# EAGLE library part USB-MICROE (library Deegou_Connector)
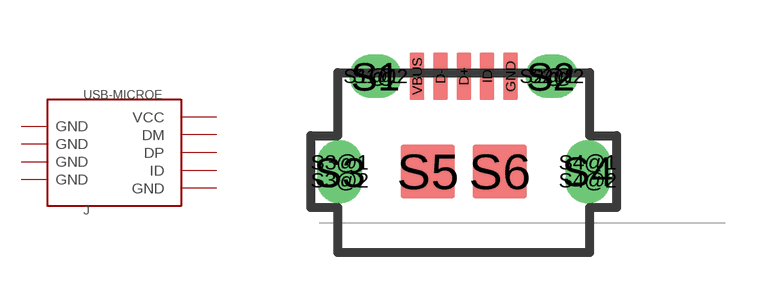
[diagram p29: symbol with the pads of MICRO-SMD; footprint MICRO-SMD]

Designator prefix J

## USB-MICROE  [MICRO-SMD]
D+  DP
D-  DM
GND  GND
ID  ID
S1  GND
S1@1  GND
S1@2  GND
S2  GND
S2@1  GND
S2@2  GND
S3  GND
S3@1  GND
S3@2  GND
S4  GND
S4@1  GND
S4@2  GND
S5  GND
S6  GND
VBUS  VCC

## Footprint MICRO-SMD (pad centres in mm)
smd 0.406 x 1.346: D+ 0,2.057; D- -0.66,2.057; GND 1.321,2.057; ID 0.66,2.057; VBUS -1.321,2.057
drill 0.7: S1 -2.489,2.057; S1@1 -2.616,2.057; S1@2 -2.362,2.057; S2 2.464,2.057; S2@1 2.362,2.057; S2@2 2.616,2.057
drill 0.7 pad 1.27: S3 -3.505,-0.66; S3@1 -3.505,-0.381; S3@2 -3.505,-0.889; S4 3.505,-0.635; S4@1 3.505,-0.381; S4@2 3.505,-0.889
smd 1.524 x 1.524: S5 -1.016,-0.635; S6 1.016,-0.635